# Altium footprint library PcbLib1.PcbLib: 49 footprints (part 2 of 4)
Each footprint in its own frame and in the unit in brackets; x right, y up, seen from the top. Pads: shape width x height; smd on the part's side, far side on the other; paste and mask are expansions set on the pad; w line width, h text height; cw(c..) or ccw(c..) is an arc to the next point about the centre after c.
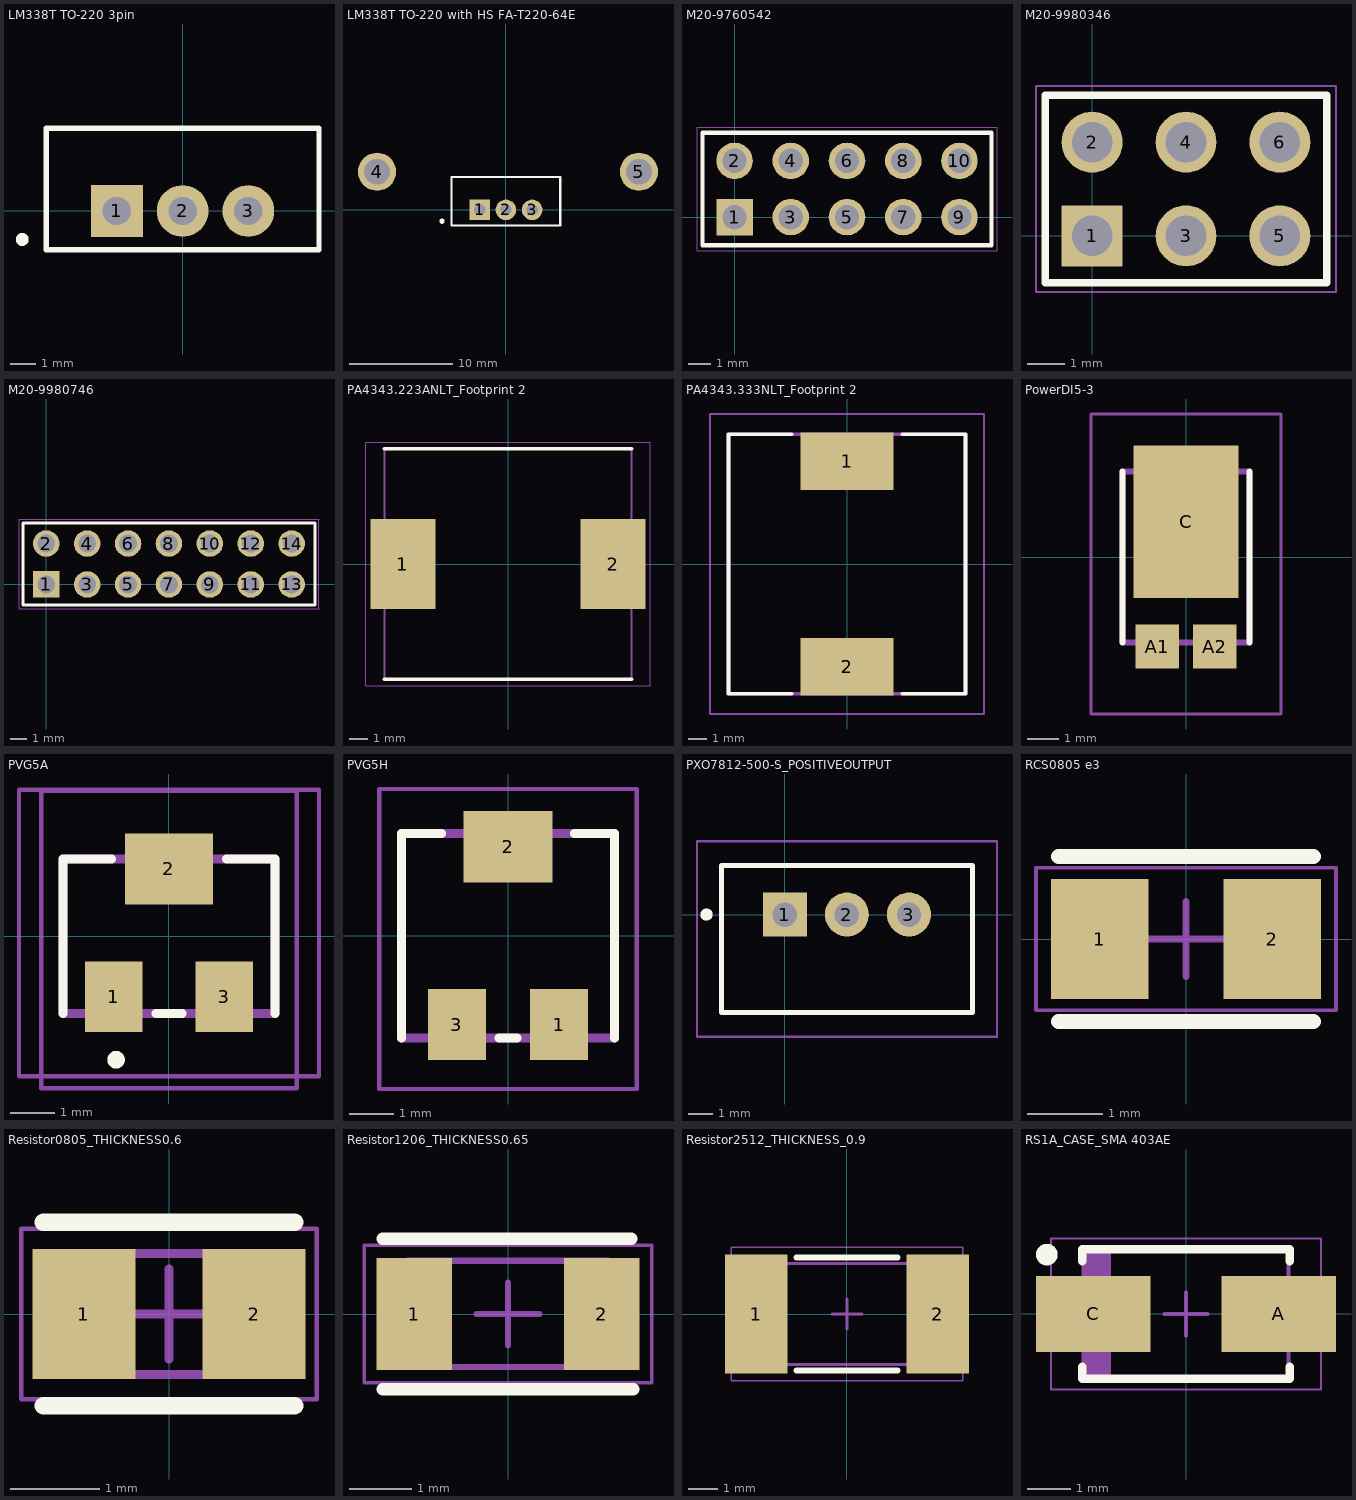
[diagram p1: the footprints below, top view; thin cyan lines are the x and y axes]

## LM338T TO-220 3pin [mm]
pads (3):
  rect 2x2 hole 1.1: 1(-2.54,0)
  round 2 hole 1.1: 2(0,0) 3(2.54,0)
Top Overlay:
  circle w0.25: c-6.2,-1.1 r0.125
  lines w0.2: -5.27,-1.5 -5.27,3.2 5.27,3.2 5.27,-1.5 -5.27,-1.5
Mechanical 15:
  lines w0.1: -5.27,3.2 5.27,3.2 5.27,-1.5
3D body "LM338T_NOPB.stp": height 23.74, standoff -4.91, extent -5.08,-1.672 5.08,2.9

## LM338T TO-220 with HS FA-T220-64E [mm]
pads (5):
  rect 2x2 hole 1.1: 1(-2.54,0)
  round 2 hole 1.1: 2(0,0) 3(2.54,0)
  round 3.7 hole 2.5 unplated: 4(-12.5,3.7) 5(12.9,3.7)
Top Overlay:
  circle w0.25: c-6.2,-1.1 r0.125
  lines w0.2: -5.27,-1.5 -5.27,3.2 5.27,3.2 5.27,-1.5 -5.27,-1.5
Mechanical 15:
  lines w0.1: -5.27,3.2 5.27,3.2 5.27,-1.5
3D body "LM338T_NOPB.stp": height 20.74, standoff -7.91, extent -5.08,-1.672 5.08,2.9
3D body "User Library-OHMITE_FA-T220-64E.step": height 63.5, standoff -3.8, extent -20.6,-8.866 21,16.266

## M20-9760542 [mm]
pads (10):
  rect 1.65x1.65 hole 1.1: 1(0,0)
  round 1.65 hole 1.1: 2(0,2.54) 3(2.54,0) 4(2.54,2.54) 5(5.08,0) 6(5.08,2.54) 7(7.62,0) 8(7.62,2.54) 9(10.16,0) 10(10.16,2.54)
Top Overlay:
  lines w0.2: -1.445,3.8 -1.445,-1.27 11.605,-1.27 11.605,3.81 -1.445,3.81
Mechanical 15:
  lines w0.1: -1.445,-1.27 -1.445,3.81 11.605,3.81 11.605,-1.27 -1.445,-1.27
Mechanical 20:
  lines w0.05: -1.695,-1.52 -1.695,4.06 11.855,4.06 11.855,-1.52 -1.695,-1.52
3D body "M20-9760542.stp": height 8.34, standoff -3.1, extent -1.27,-1.27 11.43,3.81

## M20-9980346 [mm]
pads (6):
  rect 1.65x1.65 hole 1.1: 1(0,0)
  round 1.65 hole 1.1: 2(0,2.54) 3(2.54,0) 4(2.54,2.54) 5(5.08,0) 6(5.08,2.54)
Top Overlay:
  lines w0.2: -1.27,3.8 -1.27,-1.27 6.35,-1.27 6.35,3.81 -1.27,3.81
Mechanical 15:
  lines w0.1: -1.27,-1.27 -1.27,3.81 6.35,3.81 6.35,-1.27 -1.27,-1.27
Mechanical 20:
  lines w0.05: -1.52,-1.52 -1.52,4.06 6.6,4.06 6.6,-1.52 -1.52,-1.52
3D body "M20-9980346.stp": height 8.68, standoff -3, extent -1.27,-1.27 6.35,3.81

## M20-9980746 [mm]
pads (14):
  rect 1.65x1.65 hole 1.1: 1(0,0)
  round 1.65 hole 1.1: 2(0,2.54) 3(2.54,0) 4(2.54,2.54) 5(5.08,0) 6(5.08,2.54) 7(7.62,0) 8(7.62,2.54) 9(10.16,0) 10(10.16,2.54) 11(12.7,0) 12(12.7,2.54) 13(15.24,0) 14(15.24,2.54)
Top Overlay:
  lines w0.2: -1.445,3.8 -1.445,-1.27 16.688,-1.27 ; -1.445,3.81 16.688,3.81 ; 16.685,-1.27 16.685,3.81
Mechanical 15:
  lines w0.1: 16.685,-1.27 16.685,3.81 ; 16.688,-1.27 -1.445,-1.27 -1.445,3.81 16.688,3.81
Mechanical 20:
  lines w0.05: 16.935,-1.52 16.935,4.06 ; 16.942,-1.52 -1.695,-1.52 -1.695,4.06 16.942,4.06
3D body "User Library-PLD-xx.step": height 8.4, standoff -3, extent -1.27,-1.255 16.51,3.745

## PA4343.223ANLT_Footprint 2 [mm]
height 6.2
pads (2):
  rect 3.55x4.9 smd: 1(-5.75,0) 2(5.75,0)
Top Overlay:
  lines w0.2: -6.75,-6.3 6.75,-6.3 ; -6.75,6.3 6.75,6.3
Mechanical 15:
  lines w0.1: -6.75,-6.3 6.75,-6.3 6.75,6.3 -6.75,6.3 -6.75,-6.3
Mechanical 20:
  lines w0.05: -7.775,-6.65 7.775,-6.65 7.775,6.65 -7.775,6.65 -7.775,-6.65
3D body "PA4343.223ANLT.stp": height 6.5, standoff 0, extent -6.75,-6.3 6.75,6.3

## PA4343.333NLT_Footprint 2 [mm]
pads (2):
  rect 5x3.1 smd: 1(0,5.55) 2(0,-5.55)
Top Overlay:
  lines w0.2: -3,-7 -6.4,-7 -6.4,7 -3,7 ; 3,-7 6.4,-7 6.4,7 3,7
Mechanical 15:
  lines w0.2: -6.4,-7 6.4,-7 6.4,7 -6.4,7 -6.4,-7
Mechanical 20:
  lines w0.1: -7.4,-8.1 7.4,-8.1 7.4,8.1 -7.4,8.1 -7.4,-8.1
3D body "PA4343.333NLT.stp": height 6.2, standoff 0, extent -6.25,-6.75 6.25,6.75

## PowerDI5-3 [mm]
pads (3):
  rect 1.39x1.4 smd: A1(-0.92,-2.856) A2(0.92,-2.856)
  rect 3.36x4.86 smd: C(0,1.126)
Top Overlay:
  lines w0.2: -2.025,-2.725 -2.025,2.725 ; 2.025,-2.725 2.025,2.725
Mechanical 13:
  lines w0.2: -2.025,-2.725 -2.025,2.725 2.025,2.725 2.025,-2.725 -2.025,-2.725
Mechanical 15:
  lines w0.1: -3.025,-5 -3.025,4.556 3.025,4.556 3.025,-5 -3.025,-5
3D body "SBRT20U60SP5-7.stp": height 1.1, standoff 0, extent -1.983,-3.255 1.983,3.255

## PVG5A [mm]
pads (3):
  rect 1.3x1.6 smd: 1(-1.25,-1.375) 3(1.25,-1.375)
  rect 2x1.6 smd: 2(0,1.525)
Top Overlay:
  lines w0.2: -2.4,-1.75 -2.4,1.75 -1.3,1.75 ; -0.3,-1.75 0.3,-1.75 ; 1.3,1.75 2.4,1.75 2.4,-1.75 ; -1.2,-2.9 cw(c-1.2,-2.8) -1.2,-2.7 cw(c-1.2,-2.8) -1.2,-2.9
Mechanical 13:
  lines w0.2: -2.4,-1.75 2.4,-1.75 2.4,1.75 -2.4,1.75 -2.4,-1.75
Mechanical 15:
  lines w0.1: -3.4,-3.175 3.4,-3.175 3.4,3.325 -3.4,3.325 -3.4,-3.175
Mechanical 20:
  lines w0.1: -2.9,-3.45 -2.9,3.3 2.9,3.3 2.9,-3.45 -2.9,-3.45
3D body "User Library-TRIMMER_PVG5A.STEP": height 5.6, standoff 0, extent -2.4,-1.85 2.4,1.85

## PVG5H [mm]
pads (3):
  rect 1.3x1.6 smd: 1(1.15,-2) 3(-1.15,-2)
  rect 2x1.6 smd: 2(0,2)
Top Overlay:
  lines w0.2: -2.4,-2.3 -2.4,2.3 -1.5,2.3 ; -0.2,-2.3 0.2,-2.3 ; 1.5,2.3 2.4,2.3 2.4,-2.3
Mechanical 15:
  lines w0.2: -2.4,-2.3 -2.4,2.3 2.4,2.3 2.4,-2.3 -2.4,-2.3
Mechanical 20:
  lines w0.1: -2.9,-3.45 -2.9,3.3 2.9,3.3 2.9,-3.45 -2.9,-3.45
3D body "User Library-PVG5H.STEP": height 3.7, standoff 0, extent -2.4,-2.55 2.4,2.55

## PXO7812-500-S_POSITIVEOUTPUT [mm]
pads (3):
  rect 1.8x1.8 hole 1: 1(0,0)
  round 1.8 hole 1: 2(2.54,0) 3(5.08,0)
Top Overlay:
  circle w0.25: c-3.2,0 r0.125
  lines w0.1: -3.2,0 cw(c-3.15,0) -3.1,0 cw(c-3.15,0) -3.2,0
  lines w0.2: -2.59,-4 -2.59,2 7.68,2 7.68,-4 -2.59,-4
Mechanical 15:
  lines w0.1: -2.59,-4 -2.59,2 7.68,2 7.68,-4 -2.59,-4
Mechanical 20:
  lines w0.1: -3.59,-5 -3.59,3 8.68,3 8.68,-5 -3.59,-5
3D body "PXO7812-500-S.step": height 10.61, standoff -2.1, extent -2.637,-4.3 7.637,0.69

## RCS0805 e3 [mm]
pads (2):
  rect 1.3x1.6 smd: 1(-1.15,0) 2(1.15,0)
Top Overlay:
  lines w0.2: -1.7,-1.1 1.7,-1.1 ; -1.7,1.1 1.7,1.1
Mechanical 15:
  lines w0.05: -2,-0.95 2,-0.95 2,0.95 -2,0.95 -2,-0.95
  lines w0.1: -0.5,0 0.5,0 ; 0,-0.5 0,0.5
3D body "RCS08051K80FKEA.step": height 0.5, standoff 0, extent -1,-0.625 1,0.625

## Resistor0805_THICKNESS0.6 [mm] "Chip Resistor, 2-Leads, Body 2,00x1,25mm, IPC Medium Density"
height 0.6
pads (2):
  rect 1.15x1.45 smd: 1(-0.95,0) 2(0.95,0)
Top Overlay:
  lines w0.2: -1.4,-1.025 1.4,-1.025 ; -1.4,1.025 1.4,1.025
Mechanical 13:
  lines w0.1: -1.05,-0.675 -1.05,0.675 1.05,0.675 1.05,-0.675 -1.05,-0.675
Mechanical 15:
  lines w0.05: -1.65,-0.95 -1.65,0.95 1.65,0.95 1.65,-0.95 -1.65,-0.95
  lines w0.1: -0.5,0 0.5,0 ; 0,-0.5 0,0.5
3D body "RESC2012X06N.step": height 0.6, standoff 0, extent -1.05,-0.675 1.05,0.675

## Resistor1206_THICKNESS0.65 [mm] "Chip Resistor, 2-Leads, Body 3,10x1,60mm, IPC Medium Density"
height 0.65
pads (2):
  rect 1.2x1.8 smd: 1(-1.5,0) 2(1.5,0)
Top Overlay:
  lines w0.2: -2,-1.2 2,-1.2 ; -2,1.2 1.975,1.2
Top Assembly:
  lines w0.1: -1.6,-0.85 1.6,-0.85 1.6,0.85 -1.6,0.85 -1.6,-0.85
Mechanical 15:
  lines w0.05: -2.3,-1.1 2.3,-1.1 2.3,1.1 -2.3,1.1 -2.3,-1.1
  lines w0.1: -0.5,0 0.5,0 ; 0,-0.5 0,0.5
3D body "RESC3116X06N.step": height 0.65, standoff 0, extent -1.6,-0.85 1.6,0.85

## Resistor2512_THICKNESS_0.9 [mm] "Chip Resistor, 2-Leads, Body 6,40x3,20mm, IPC Medium Density"
height 0.9
pads (2):
  rect 2.1x4 smd: 1(-3.05,0) 2(3.05,0)
Top Overlay:
  lines w0.2: -1.7,-1.9 1.7,-1.9 ; -1.7,1.9 1.7,1.9
Top Assembly:
  lines w0.1: -3.3,-1.7 3.3,-1.7 3.3,1.7 -3.3,1.7 -3.3,-1.7
Mechanical 15:
  lines w0.05: -3.9,-2.25 3.9,-2.25 3.9,2.25 -3.9,2.25 -3.9,-2.25
  lines w0.1: -0.5,0 0.5,0 ; 0,-0.5 0,0.5
3D body "RESC6432X09N.step": height 0.9, standoff 0, extent -3.3,-1.7 3.3,1.7

## RS1A_CASE_SMA 403AE [mm] "Molded Diode, 2-Leads, Body 4,38x2,73mm, IPC Medium Density"
height 2.5
pads (2):
  rect 2.65x1.75 smd: A(2.15,0) C(-2.15,0)
Top Overlay:
  circle w0.25: c-3.225,1.375 r0.125
  lines w0.2: -2.4,-1.225 -2.4,-1.5 2.4,-1.5 2.4,-1.225 ; -2.4,1.225 -2.4,1.5 2.4,1.5 2.4,1.225
Mechanical 13:
  rectangle: -2.375,-1.475 -1.736,1.475
  lines w0.1: -2.375,-1.475 2.375,-1.475 2.375,1.475 -2.375,1.475 -2.375,-1.475
Mechanical 15:
  lines w0.05: -3.125,-1.75 3.125,-1.75 3.125,1.75 -3.125,1.75 -3.125,-1.75
  lines w0.1: -0.5,0 0.5,0 ; 0,-0.5 0,0.5
3D body "DIOM4427X25N.step": height 2.5, standoff 0, extent -2.595,-1.475 2.595,1.475